# Altium footprint library VF10.PcbLib: 58 footprints (part 1 of 4)
Each footprint in its own frame and in the unit in brackets; x right, y up, seen from the top. Pads: shape width x height; smd on the part's side, far side on the other; paste and mask are expansions set on the pad; w line width, h text height; cw(c..) or ccw(c..) is an arc to the next point about the centre after c.
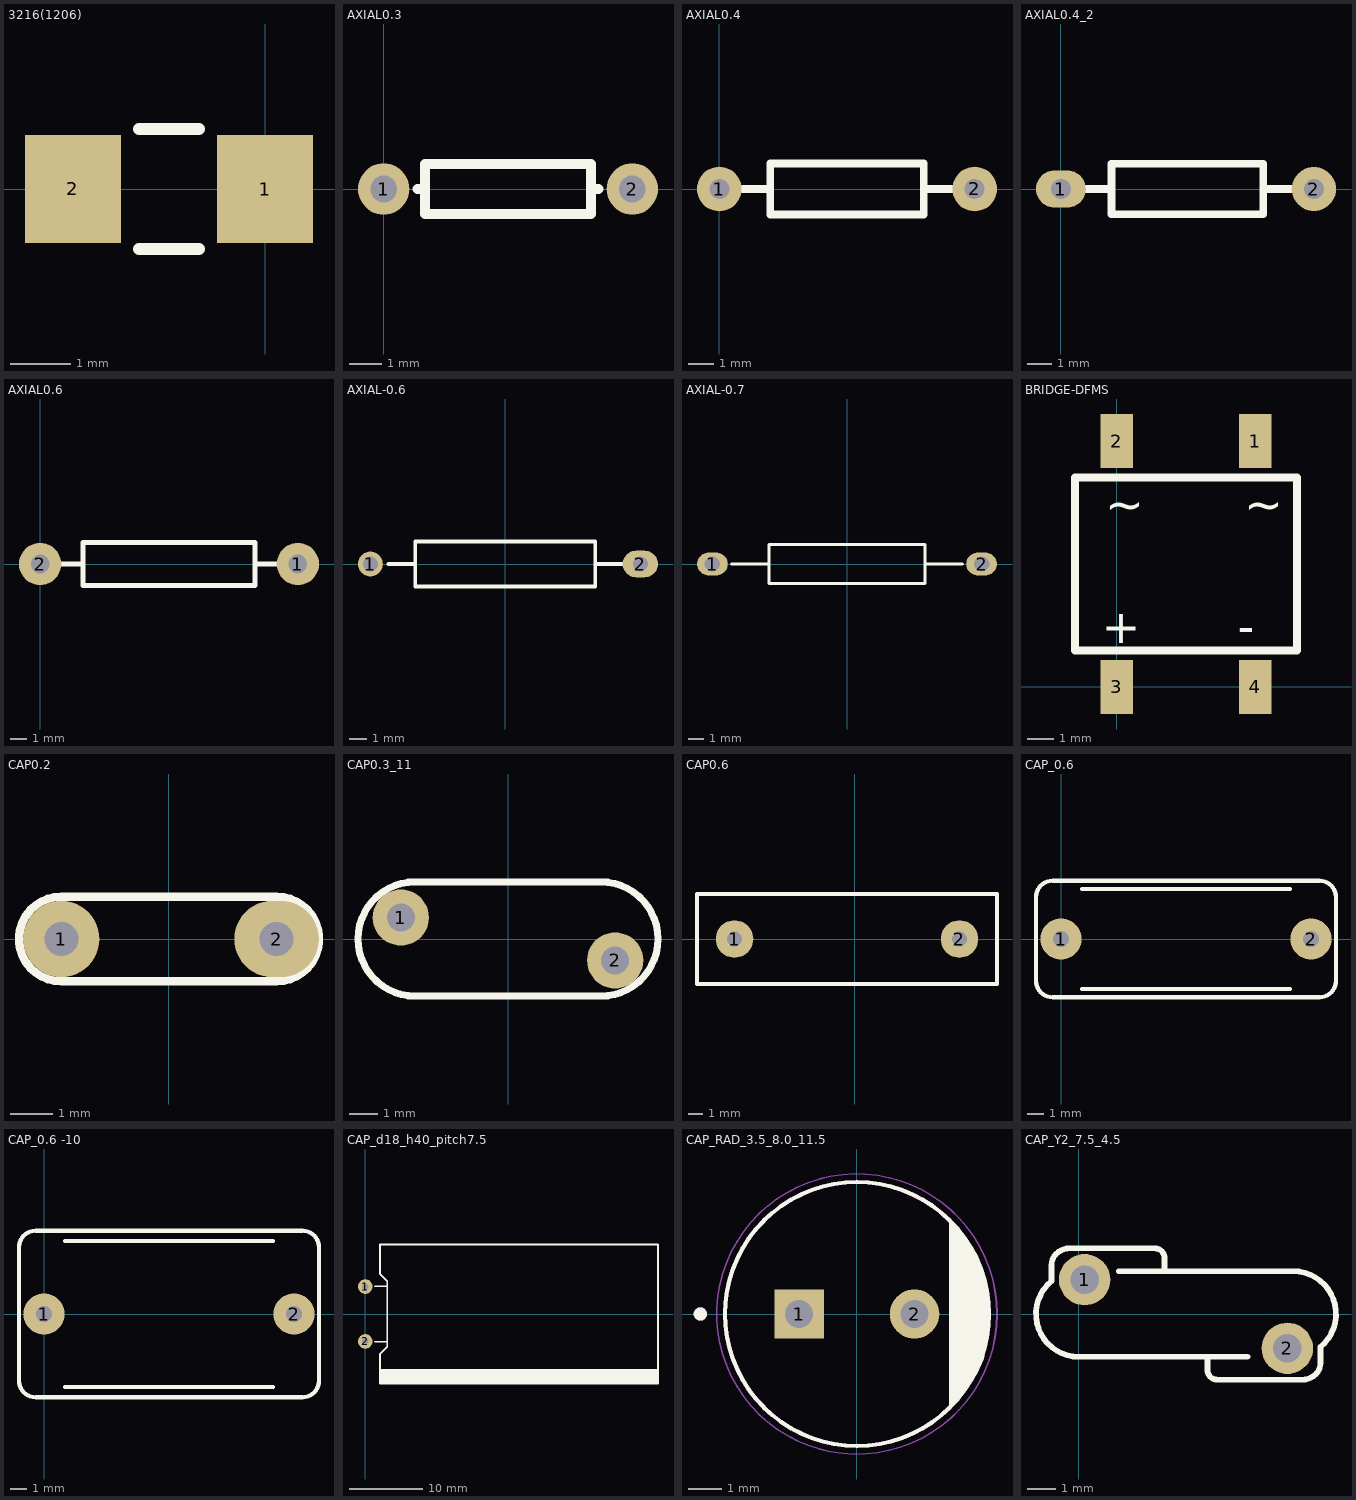
[diagram p0: the footprints below, top view; thin cyan lines are the x and y axes]

## 3216(1206) [mm]
height 1.35
pads (2):
  rect 1.6x1.8 smd: 1(0,0) 2(-3.2,0)
Top Overlay:
  lines w0.2: -2.1,-1 -1.1,-1 ; -2.1,1 -1.1,1

## AXIAL0.3 [mil]
pads (2):
  round 62 hole 32: 1(0,0) 2(300,0)
Top Overlay:
  lines w12: 41,0 50,0 ; 259,0 250,0 ; 250,0 250,30 50,30 50,-30 250,-30 250,0

## AXIAL0.4 [mil]
pads (2):
  round 70 hole 31.5: 1(0,0) 2(400,0)
Top Overlay:
  lines w12: 0,0 80,0 ; 320,0 400,0 ; 80,-40 320,-40 320,40 80,40 80,-40

## AXIAL0.4_2 [mm]
pads (2):
  oval 2x1.5 hole 0.8: 1(0,0)
  round 1.778 hole 0.8: 2(10.16,0)
Top Overlay:
  lines w0.305: 0,0 2.032,0 ; 8.128,0 10.16,0 ; 2.032,-1.016 8.128,-1.016 8.128,1.016 2.032,1.016 2.032,-1.016

## AXIAL0.6 [mm]
pads (2):
  round 2.5 hole 1.1: 1(15.24,0) 2(0,0)
Top Overlay:
  lines w0.305: 0,0 2.54,0 ; 12.7,0 15.24,0 ; 2.54,-1.27 12.7,-1.27 12.7,1.27 2.54,1.27 2.54,-1.27

## AXIAL-0.6 [mm] "Axial Device, Thru-Hole; 2 Leads; 0.6 in Pin Spacing"
height 2.54
pads (2):
  round 1.4 hole 0.85: 1(-7.62,0)
  oval 2x1.5 hole 0.85: 2(7.62,0)
Top Overlay:
  lines w0.2: -6.604,0 -5.08,0 ; 5.08,0 6.604,0 ; -5.08,-1.27 -5.08,1.27 5.08,1.27 5.08,-1.27 -5.08,-1.27
3D body "resistor-1W.stp": height 5.5, standoff -4.5, extent -7.97,-2.5 7.97,2.5

## AXIAL-0.7 [mm] "Axial Device, Thru-Hole; 2 Leads; 0.6 in Pin Spacing"
height 2.54
pads (2):
  oval 2x1.5 hole 1: 1(-8.75,0) 2(8.75,0)
Top Overlay:
  lines w0.2: -7.5,0 -5.08,0 ; 5.08,0 7.5,0 ; -5.08,-1.27 5.08,-1.27 5.08,1.27 -5.08,1.27 -5.08,-1.27
3D body "R_1W__D3,5__L10__Pitch-17,5__Spacing-1.stp": height 3.75, standoff -4.35, extent -9.1,-1.798 9.1,1.7

## BRIDGE-DFMS [mil] "DF201S//0.5&2A//50&1000V"
pads (4):
  rect 48x80 smd: 1(205,364) 2(0,364) 3(0,0) 4(205,0)
Top Overlay:
  lines w12: -62,54 267,54 267,310 -62,310 -62,246 -62,118 -62,54
  text "+" at -22,65 h50
  text "-" at 179,65 h50
  text "~" at 189,246 h50
  text "~" at -17,246 h50

## CAP0.2 [mm]
pads (2):
  round 1.8 hole 0.8: 1(-2.54,0)
  oval 2x1.8 hole 0.8: 2(2.54,0)
Top Overlay:
  lines w0.2: -2.54,-1 cw(c-2.54,0) -2.54,1 2.54,1 cw(c2.54,0) 2.54,-1 -2.54,-1

## CAP0.3_11 [mm]
pads (2):
  round 2 hole 1: 1(-3.81,0.762) 2(3.81,-0.762)
Top Overlay:
  lines w0.254: -3.302,-2.032 cw(c-3.302,0) -3.302,2.032 3.302,2.032 cw(c3.302,0) 3.302,-2.032 -3.302,-2.032
3D body "User Library-S238.step": height 26.09, standoff -19.17, extent -8.05,-3.242 7.45,3.246

## CAP0.6 [mm]
pads (2):
  round 2.54 hole 1: 1(-8.128,0) 2(7.112,0)
Top Overlay:
  lines w0.254: -10.668,-3.048 9.652,-3.048 9.652,3.048 -10.668,3.048 -10.668,-3.048

## CAP_0.6 [mm]
pads (2):
  round 2.5 hole 1: 1(0,0) 2(15.24,0)
Top Overlay:
  lines w0.254: 1.27,-3.048 13.97,-3.048 ; 1.27,3.048 13.97,3.048 ; -1.524,-2.54 ccw(c-0.508,-2.54) -0.508,-3.556 15.748,-3.556 ccw(c15.748,-2.54) 16.764,-2.54 16.764,2.54 ccw(c15.748,2.54) 15.748,3.556 -0.508,3.556 ccw(c-0.508,2.54) -1.524,2.54 -1.524,-2.54
3D body "r73ei3100se00j.stp": height 13.6, standoff -6, extent -1.53,-3.9 16.97,3.805

## CAP_0.6 -10 [mm]
pads (2):
  round 2.5 hole 1: 1(0,0) 2(15.24,0)
Top Overlay:
  lines w0.254: 1.27,-4.445 13.97,-4.445 ; 1.27,4.445 13.97,4.445 ; -1.524,-4.064 ccw(c-0.508,-4.064) -0.508,-5.08 15.748,-5.08 ccw(c15.748,-4.064) 16.764,-4.064 16.764,4.064 ccw(c15.748,4.064) 15.748,5.08 -0.508,5.08 ccw(c-0.508,4.064) -1.524,4.064 -1.524,-4.064
3D body "r73ei3100se00j.stp": height 13.6, standoff -6, extent -1.53,-3.9 16.97,3.805

## CAP_d18_h40_pitch7.5 [mm]
pads (2):
  round 2 hole 0.9: 1(0,3.75) 2(0,-3.75)
Top Overlay:
  rectangle: 2.1,-9.5 40,-7.5
  lines w0.254: 1.3,-3.8 2.9,-3.8 ; 1.3,3.8 2.9,3.8 ; 2,-9.5 2,-5.5 3,-4.5 3,4.5 2,5.5 2,9.5 40,9.5 40,-9.5 2,-9.5
3D body "cap_el_horizontal_d18_h40_pitch7.5_w0.8.stp": height 18.09, standoff -3, extent -0.4,-9.11 42.41,8.9

## CAP_RAD_3.5_8.0_11.5 [mm]
pads (2):
  rect 1.5x1.5 hole 0.85: 1(-1.75,0)
  round 1.5 hole 0.85: 2(1.75,0)
Top Overlay:
  circle w0.2: c-4.75,0 r0.1
  circle w0.127: c0,0 r4
  region: 3.048,2.54 3.193,2.395 3.37,2.218 3.648,1.802 3.839,1.34 3.937,0.849 3.937,0.599 3.937,-0.635 3.937,-0.877 3.843,-1.35 3.658,-1.797 3.389,-2.199 3.219,-2.369 2.794,-2.794 2.794,2.921
Mechanical 13:
  circle w0.2: c-4.75,0 r0.1
  circle w0.127: c0,0 r4
Mechanical 15:
  circle w0.05: c0,0 r4.25
3D body "step_temp.STEP": height 11.5, standoff -17, extent -4,-4 4,4

## CAP_Y2_7.5_4.5 [mm]
pads (2):
  round 1.8 hole 1: 1(0.2,1.2) 2(7.3,-1.2)
Top Overlay:
  lines w0.2: 1.4,1.5 7.561,1.5 ; 3,1.5 3,1.959 ccw(c2.659,1.959) 2.9,2.2 ccw(c2.659,1.959) 2.659,2.3 -0.317,2.3 ccw(c-0.317,1.617) -0.8,2.1 ccw(c-0.413,1.713) -0.96,1.713 -0.96,1.152 ccw(c0,0) 0,-1.5 5.9,-1.5 ; 4.5,-1.5 4.5,-1.959 ccw(c4.841,-1.959) 4.6,-2.2 ccw(c4.841,-1.959) 4.841,-2.3 7.817,-2.3 ccw(c7.817,-1.617) 8.3,-2.1 ccw(c7.913,-1.713) 8.46,-1.713 8.46,-1.152 ccw(c7.5,0) 7.5,1.5
3D body "Y2_7x4.5_7.5mm.STEP": height 8, standoff -2.5, extent -1.152,-3.79 8.553,3.99